# EAGLE library part FX8C-060P-SV2(92) (library OBC)
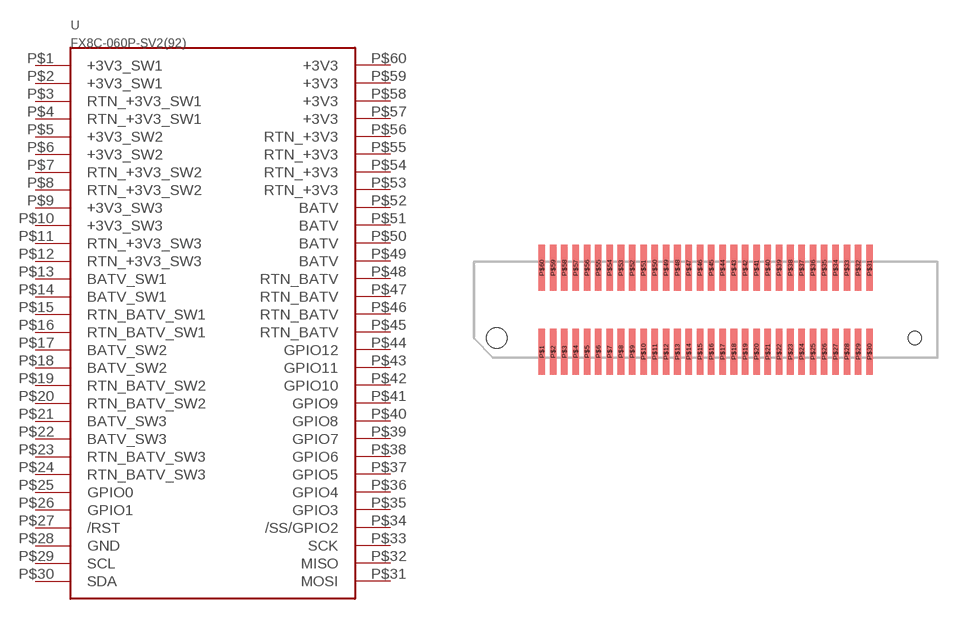
[diagram p4: symbol with the pads of FX8C-060P-SV(92); footprint FX8C-060P-SV(92)]

Designator prefix -

## FX8C-060P-SV2(92)  [FX8C-060P-SV(92)]
P$1  +3V3_SW1  pwr
P$2  +3V3_SW1  pwr
P$3  RTN_+3V3_SW1  pwr
P$4  RTN_+3V3_SW1  pwr
P$5  +3V3_SW2  pwr
P$6  +3V3_SW2  pwr
P$7  RTN_+3V3_SW2  pwr
P$8  RTN_+3V3_SW2  pwr
P$9  +3V3_SW3  pwr
P$10  +3V3_SW3  pwr
P$11  RTN_+3V3_SW3  pwr
P$12  RTN_+3V3_SW3  pwr
P$13  BATV_SW1  pwr
P$14  BATV_SW1  pwr
P$15  RTN_BATV_SW1  pwr
P$16  RTN_BATV_SW1  pwr
P$17  BATV_SW2  pwr
P$18  BATV_SW2  pwr
P$19  RTN_BATV_SW2  pwr
P$20  RTN_BATV_SW2  pwr
P$21  BATV_SW3  pwr
P$22  BATV_SW3  pwr
P$23  RTN_BATV_SW3  pwr
P$24  RTN_BATV_SW3  pwr
P$25  GPIO0
P$26  GPIO1
P$27  /RST
P$28  GND
P$29  SCL
P$30  SDA
P$31  MOSI
P$32  MISO
P$33  SCK
P$34  /SS/GPIO2
P$35  GPIO3
P$36  GPIO4
P$37  GPIO5
P$38  GPIO6
P$39  GPIO7
P$40  GPIO8
P$41  GPIO9
P$42  GPIO10
P$43  GPIO11
P$44  GPIO12
P$45  RTN_BATV  pwr
P$46  RTN_BATV  pwr
P$47  RTN_BATV  pwr
P$48  RTN_BATV  pwr
P$49  BATV  pwr
P$50  BATV  pwr
P$51  BATV  pwr
P$52  BATV  pwr
P$53  RTN_+3V3  pwr
P$54  RTN_+3V3  pwr
P$55  RTN_+3V3  pwr
P$56  RTN_+3V3  pwr
P$57  +3V3  pwr
P$58  +3V3  pwr
P$59  +3V3  pwr
P$60  +3V3  pwr

## Footprint FX8C-060P-SV(92) (pad centres in mm)
smd 0.35 x 2.45: P$1 -8.7,-2.225; P$2 -8.1,-2.225; P$3 -7.5,-2.225; P$4 -6.9,-2.225; P$5 -6.3,-2.225; P$6 -5.7,-2.225; P$7 -5.1,-2.225; P$8 -4.5,-2.225; P$9 -3.9,-2.225; P$10 -3.3,-2.225; P$11 -2.7,-2.225; P$12 -2.1,-2.225; P$13 -1.5,-2.225; P$14 -0.9,-2.225; P$15 -0.3,-2.225; P$16 0.3,-2.225; P$17 0.9,-2.225; P$18 1.5,-2.225; P$19 2.1,-2.225; P$20 2.7,-2.225; P$21 3.3,-2.225; P$22 3.9,-2.225; P$23 4.5,-2.225; P$24 5.1,-2.225; P$25 5.7,-2.225; P$26 6.3,-2.225; P$27 6.9,-2.225; P$28 7.5,-2.225; P$29 8.1,-2.225; P$30 8.7,-2.225; P$31 8.7,2.225; P$32 8.1,2.225; P$33 7.5,2.225; P$34 6.9,2.225; P$35 6.3,2.225; P$36 5.7,2.225; P$37 5.1,2.225; P$38 4.5,2.225; P$39 3.9,2.225; P$40 3.3,2.225; P$41 2.7,2.225; P$42 2.1,2.225; P$43 1.5,2.225; P$44 0.9,2.225; P$45 0.3,2.225; P$46 -0.3,2.225; P$47 -0.9,2.225; P$48 -1.5,2.225; P$49 -2.1,2.225; P$50 -2.7,2.225; P$51 -3.3,2.225; P$52 -3.9,2.225; P$53 -4.5,2.225; P$54 -5.1,2.225; P$55 -5.7,2.225; P$56 -6.3,2.225; P$57 -6.9,2.225; P$58 -7.5,2.225; P$59 -8.1,2.225; P$60 -8.7,2.225
hole 1.1 at -11.1,-1.499
hole 0.7 at 11.1,-1.499